# Altium schematic symbol library ECS-250-6-37-JTN-TR.SchLib: 1 symbol
Pins are listed as number, name and electrical type; pins without a type are passive.

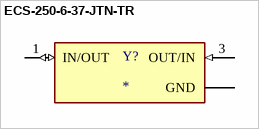
[diagram p0: symbol ECS-250-6-37-JTN-TR]

## ECS-250-6-37-JTN-TR
designator Y?
SMD Crystal 2.0 x 1.6 x 0.45 mm ceramic package; MP: ECS-250-6-37-JTN-TR; Package: None; Price: None; Value: *; Availability: Unavailable; ComponentLink1Description: New link; ComponentLink1URL: *
footprint XTAL_ECS-250-6-37-JTN-TR
pins: 1 IN/OUT (io), 2 GND (power), 3 OUT/IN (in), 4 GND (power)